# EAGLE library part USB-CON-A (library dragino)
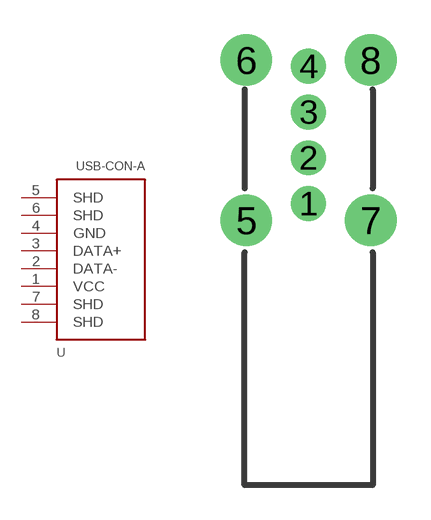
[diagram p15: symbol with the pads of CON-USB-AH; footprint CON-USB-AH]

Designator prefix -

## USB-CON-AVERTICAL  [CON-USB-AH]
1  VCC
2  DATA-
3  DATA+
4  GND
5  SHD
6  SHD
7  SHD
8  SHD

## Footprint CON-USB-AH (pad centres in mm)
drill 0.914 pad 1.524: 1 0,1.877; 2 0,3.876; 3 0,5.875; 4 0,7.874
drill 1.499 pad 2.159: 5 -2.718,1.148; 6 -2.718,8.146; 7 2.718,1.148; 8 2.718,8.146